# Altium footprint library Fonte_Chaveada_ISL6236.PcbLib: 9 footprints
Each footprint in its own frame and in the unit in brackets; x right, y up, seen from the top. Pads: shape width x height; smd on the part's side, far side on the other; paste and mask are expansions set on the pad; w line width, h text height; cw(c..) or ccw(c..) is an arc to the next point about the centre after c.
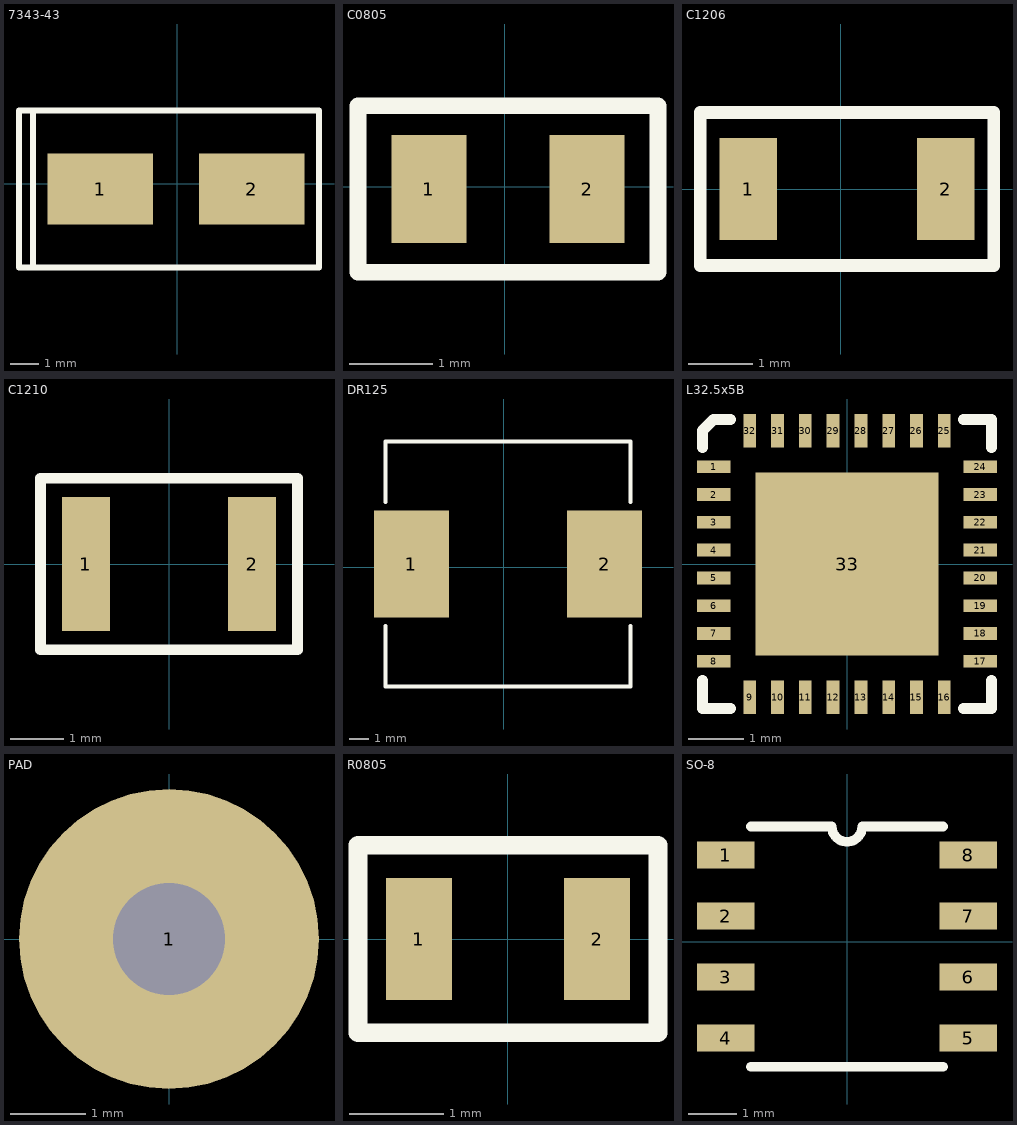
[diagram p0: the footprints below, top view; thin cyan lines are the x and y axes]

## 7343-43 [mm]
pads (2):
  rect 3.75x2.55 smd: 1(-2.74,-0.181) 2(2.66,-0.181)
Top Overlay:
  lines w0.2: -5.14,-2.981 -5.64,-2.981 -5.64,2.619 -5.14,2.619 ; -5.14,-2.981 -5.14,2.619 ; -5.14,-2.981 5.06,-2.981 5.06,2.619 -5.14,2.619

## C0805 [mm]
pads (2):
  rect 0.9x1.3 smd: 1(-0.912,-0.027) 2(0.988,-0.027)
Top Overlay:
  lines w0.2: -1.762,-1.027 -1.762,0.973 1.838,0.973 1.838,-1.027 -1.762,-1.027

## C1206 [mm]
pads (2):
  rect 0.9x1.6 smd: 1(-1.45,0) 2(1.65,0)
Top Overlay:
  lines w0.2: -2.2,-1.2 2.4,-1.2 2.4,1.2 -2.2,1.2 -2.2,-1.2

## C1210 [mm]
pads (2):
  rect 0.9x2.5 smd: 1(-1.55,0) 2(1.55,0)
Top Overlay:
  lines w0.2: -2.4,-1.6 2.4,-1.6 2.4,1.6 -2.4,1.6 -2.4,-1.6

## DR125 [mm]
pads (2):
  rect 3.85x5.5 smd: 1(-4.747,0.173) 2(5.203,0.173)
Top Overlay:
  lines w0.2: -6.072,-3.027 -6.072,-6.127 6.528,-6.127 6.528,-3.027 ; -6.072,3.373 -6.072,6.473 6.528,6.473 6.528,3.373

## L32.5x5B [mm]
pads (33):
  rect 0.6x0.23 smd mask+0.05: 1(-2.4,1.75) 2(-2.4,1.25) 3(-2.4,0.75) 4(-2.4,0.25) 5(-2.4,-0.25) 6(-2.4,-0.75) 7(-2.4,-1.25) 8(-2.4,-1.75) 17(2.4,-1.75) 18(2.4,-1.25) 19(2.4,-0.75) 20(2.4,-0.25) 21(2.4,0.25) 22(2.4,0.75) 23(2.4,1.25) 24(2.4,1.75)
  rect 0.23x0.6 smd mask+0.05: 9(-1.75,-2.4) 10(-1.25,-2.4) 11(-0.75,-2.4) 12(-0.25,-2.4) 13(0.25,-2.4) 14(0.75,-2.4) 15(1.25,-2.4) 16(1.75,-2.4) 25(1.75,2.4) 26(1.25,2.4) 27(0.75,2.4) 28(0.25,2.4) 29(-0.25,2.4) 30(-0.75,2.4) 31(-1.25,2.4) 32(-1.75,2.4)
  rect 3.3x3.3 smd mask+0.05: 33(0,0)
Top Overlay:
  lines w0.2: -2.6,-2.1 -2.6,-2.6 -2.1,-2.6 ; -2.6,2.1 -2.6,2.4 -2.4,2.6 -2.1,2.6 ; 2.1,-2.6 2.6,-2.6 2.6,-2.1 ; 2.1,2.6 2.6,2.6 2.6,2.1

## PAD [mm]
pads (1):
  round 4 hole 1.5: 1(0,0)

## R0805 [mm]
pads (2):
  rect 0.7x1.3 smd: 1(-0.95,0) 2(0.95,0)
Top Overlay:
  lines w0.2: -1.6,-1 -1.6,1 1.6,1 1.6,-1 -1.6,-1

## SO-8 [mm]
pads (8):
  rect 1.194x0.559 smd: 1(-2.527,1.805) 2(-2.527,0.535) 3(-2.527,-0.735) 4(-2.527,-2.005) 5(2.527,-2.005) 6(2.527,-0.735) 7(2.527,0.535) 8(2.527,1.805)
Top Overlay:
  lines w0.2: -2,-2.6 2,-2.6 ; -2,2.4 -0.318,2.4 ccw(c0,2.4) 0.318,2.4 2,2.4